# EAGLE library part SCREW_TERMINAL_12_0.100 (library headers)
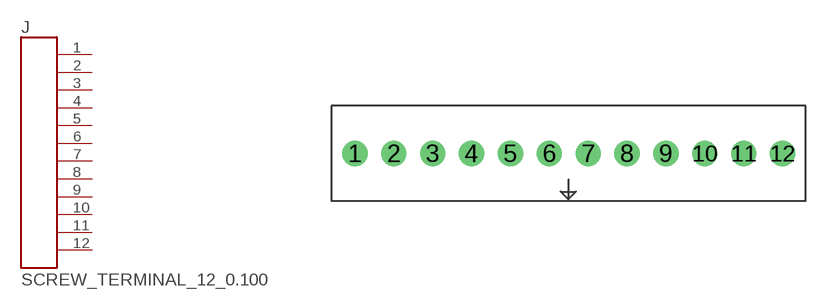
[diagram p17: symbol with the pads of CONN_BLOCK_12; footprint CONN_BLOCK_12]

Designator prefix J

## SCREW_TERMINAL_12_0.100 (DIGIKEY: 277-1283-ND)  [CONN_BLOCK_12]
1  1
2  2
3  3
4  4
5  5
6  6
7  7
8  8
9  9
10  10
11  11
12  12

## Footprint CONN_BLOCK_12 (pad centres in mm)
drill 1.1: 1 -13.97,0; 2 -11.43,0; 3 -8.89,0; 4 -6.35,0; 5 -3.81,0; 6 -1.27,0; 7 1.27,0; 8 3.81,0; 9 6.35,0; 10 8.89,0; 11 11.43,0; 12 13.97,0